# Altium footprint library 常用小元件封装库.PcbLib: 50 footprints (part 1 of 4)
Each footprint in its own frame and in the unit in brackets; x right, y up, seen from the top. Pads: shape width x height; smd on the part's side, far side on the other; paste and mask are expansions set on the pad; w line width, h text height; cw(c..) or ccw(c..) is an arc to the next point about the centre after c.
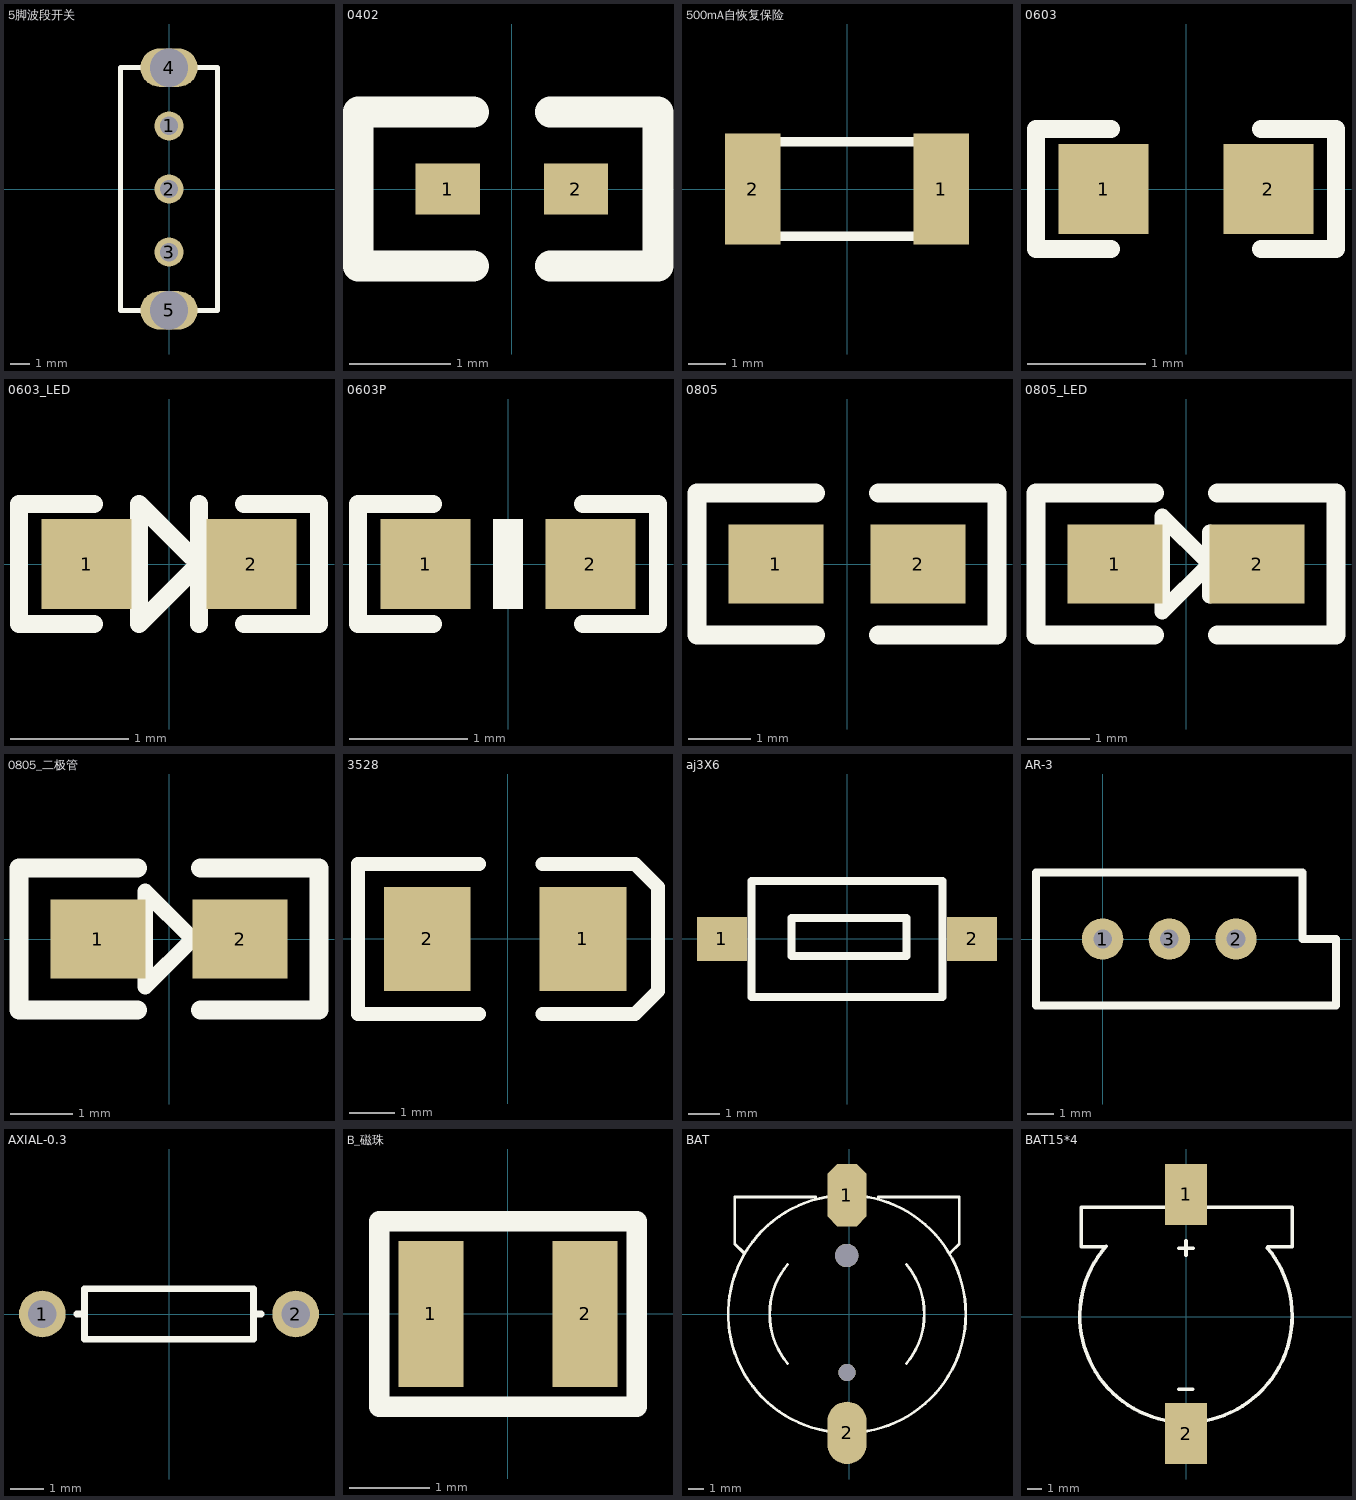
[diagram p0: the footprints below, top view; thin cyan lines are the x and y axes]

## 5脚波段开关 [mil]
pads (5):
  round 60 hole 38: 1(0,130) 2(0,0) 3(0,-130)
  oval 118.11x78.74 hole 78.74: 4(0,250) 5(0,-250)
Top Overlay:
  lines w10: -100,-250 -100,250 100,250 100,-250 -100,-250

## 0402 [mil]
pads (2):
  rect 25x20 smd: 1(-25,0) 2(25,0)
Top Overlay:
  lines w12: -15,-30 -60,-30 -60,30 -15,30 ; 15,-30 57,-30 57,30 15,30

## 500mA自恢复保险 [mm] "T050(500mA自恢复保险)"
pads (2):
  rect 1.5x3 smd: 1(2.54,0) 2(-2.54,0)
Top Overlay:
  lines w0.254: -2.54,-1.27 -2.54,1.27 2.54,1.27 2.54,-1.27 -2.54,-1.27

## 0603 [mil] "Chip Inductor, 2-Leads, Body 1.6x0.8mm, IPC Medium Density"
height 35.43
pads (2):
  rect 30x30 smd: 1(-27.5,0) 2(27.5,0)
Top Overlay:
  lines w6: -25,-20 -50,-20 -50,20 -25,20 ; 25,-20 50,-20 50,20 25,20

## 0603_LED [mil]
pads (2):
  rect 30x30 smd: 1(-27.5,0) 2(27.5,0)
Top Overlay:
  lines w6: -25,-20 -50,-20 -50,20 -25,20 ; 7.5,2.5 -10,20 -10,-20 10,0 ; 10,-20 10,20 ; 25,-20 50,-20 50,20 25,20

## 0603P [mil]
pads (2):
  rect 30x30 smd: 1(-27.5,0) 2(27.5,0)
Top Overlay:
  region: 5,-15 5,15 -5,15 -5,-15
  lines w6: -25,-20 -50,-20 -50,20 -25,20 ; 25,-20 50,-20 50,20 25,20

## 0805 [mil]
height 23.62
pads (2):
  rect 60x50 smd: 1(-45,0) 2(45,0)
Top Overlay:
  lines w12: -20,-45 -95,-45 -95,45 -20,45 ; 20,-45 95,-45 95,45 20,45

## 0805_LED [mil]
height 23.62
pads (2):
  rect 60x50 smd: 1(-45,0) 2(45,0)
Top Overlay:
  lines w10: 15,-20 15,20 ; -15,-30 15,0 -15,30 -15,-30
  lines w12: -20,-45 -95,-45 -95,45 -20,45 ; 20,-45 95,-45 95,45 20,45

## 0805_二极管 [mil]
height 23.62
pads (2):
  rect 60x50 smd: 1(-45,0) 2(45,0)
Top Overlay:
  lines w10: -15,-30 -15,30 15,0 -15,-30
  lines w12: -20,-45 -95,-45 -95,45 -20,45 ; 20,-45 95,-45 95,45 20,45

## 3528 [mil]
pads (2):
  rect 75x90 smd: 1(65,0) 2(-70,0)
Top Overlay:
  lines w12: -25,-65 -130,-65 -130,65 -25,65 ; 30,-65 110,-65 130,-45 130,45 110,65 30,65

## aj3X6 [mm]
pads (2):
  rect 1.6x1.4 smd: 1(-4,0) 2(4,0)
Top Overlay:
  lines w0.254: -3.05,-1.85 3.05,-1.85 3.05,1.85 -3.05,1.85 -3.05,-1.85 ; -1.775,-0.55 -1.775,0.675 1.9,0.675 1.9,-0.55 -1.775,-0.55

## AR-3 [mil]
pads (3):
  round 62 hole 28: 1(0,0) 2(200,0) 3(100,0)
Top Overlay:
  lines w12: -100,-100 350,-100 350,0 300,0 300,100 -100,100 -100,-100

## AXIAL-0.3 [mm]
pads (2):
  round 1.4 hole 0.85: 1(-3.81,0) 2(3.81,0)
Top Overlay:
  lines w0.2: -2.769,0 -2.54,0 ; 2.769,0 2.54,0 ; 2.54,0 2.54,-0.762 -2.54,-0.762 -2.54,0.762 2.54,0.762 2.54,0

## B_磁珠 [mm]
pads (2):
  rect 0.8x1.8 smd: 1(-0.953,0) 2(0.953,0)
Top Overlay:
  lines w0.254: -1.587,-1.143 -1.587,1.143 1.587,1.143 1.587,-1.143 -1.587,-1.143

## BAT [mm]
pads (4):
  oct 2.5x4 smd: 1(-0.129,7.625)
  oval 2.5x4 smd: 2(-0.129,-7.615)
  round 1.5 hole 1.5: ""(-0.154,3.755)
  round 1.1 hole 1.1: ""(-0.129,-3.745)
Top Overlay:
  lines w0.178: -6.754,3.93 -7.329,4.505 -7.329,7.505 -2.129,7.505 ; -3.941,-3.167 cw(c-0.129,0.005) -3.939,3.18 ; -0.962,-7.569 cw(c-0.129,0.005) -0.962,7.579 ; 0.704,-7.569 ccw(c-0.129,0.005) 7.491,0.005 ccw(c-0.129,0.005) 0.704,7.579 ; 1.871,7.505 7.071,7.505 7.071,4.505 6.471,3.905 ; 3.683,-3.167 ccw(c-0.129,0.005) 3.686,3.174

## BAT15*4 [mm]
pads (2):
  rect 3x4.3 smd: 1(0,8.636) 2(0,-8.264)
Top Overlay:
  lines w0.254: -5.687,4.936 -7.4,4.936 -7.4,7.736 7.5,7.736 7.5,4.936 5.789,4.936 ; -5.646,4.977 ccw(c0,0.036) 5.731,4.878 ; -0.525,-5.139 0.491,-5.139 ; -0.508,4.836 0.508,4.836 ; 0,4.328 0,5.344